# Altium footprint library Connector.PcbLib: 44 footprints (part 2 of 3)
Each footprint in its own frame and in the unit in brackets; x right, y up, seen from the top. Pads: shape width x height; smd on the part's side, far side on the other; paste and mask are expansions set on the pad; w line width, h text height; cw(c..) or ccw(c..) is an arc to the next point about the centre after c.
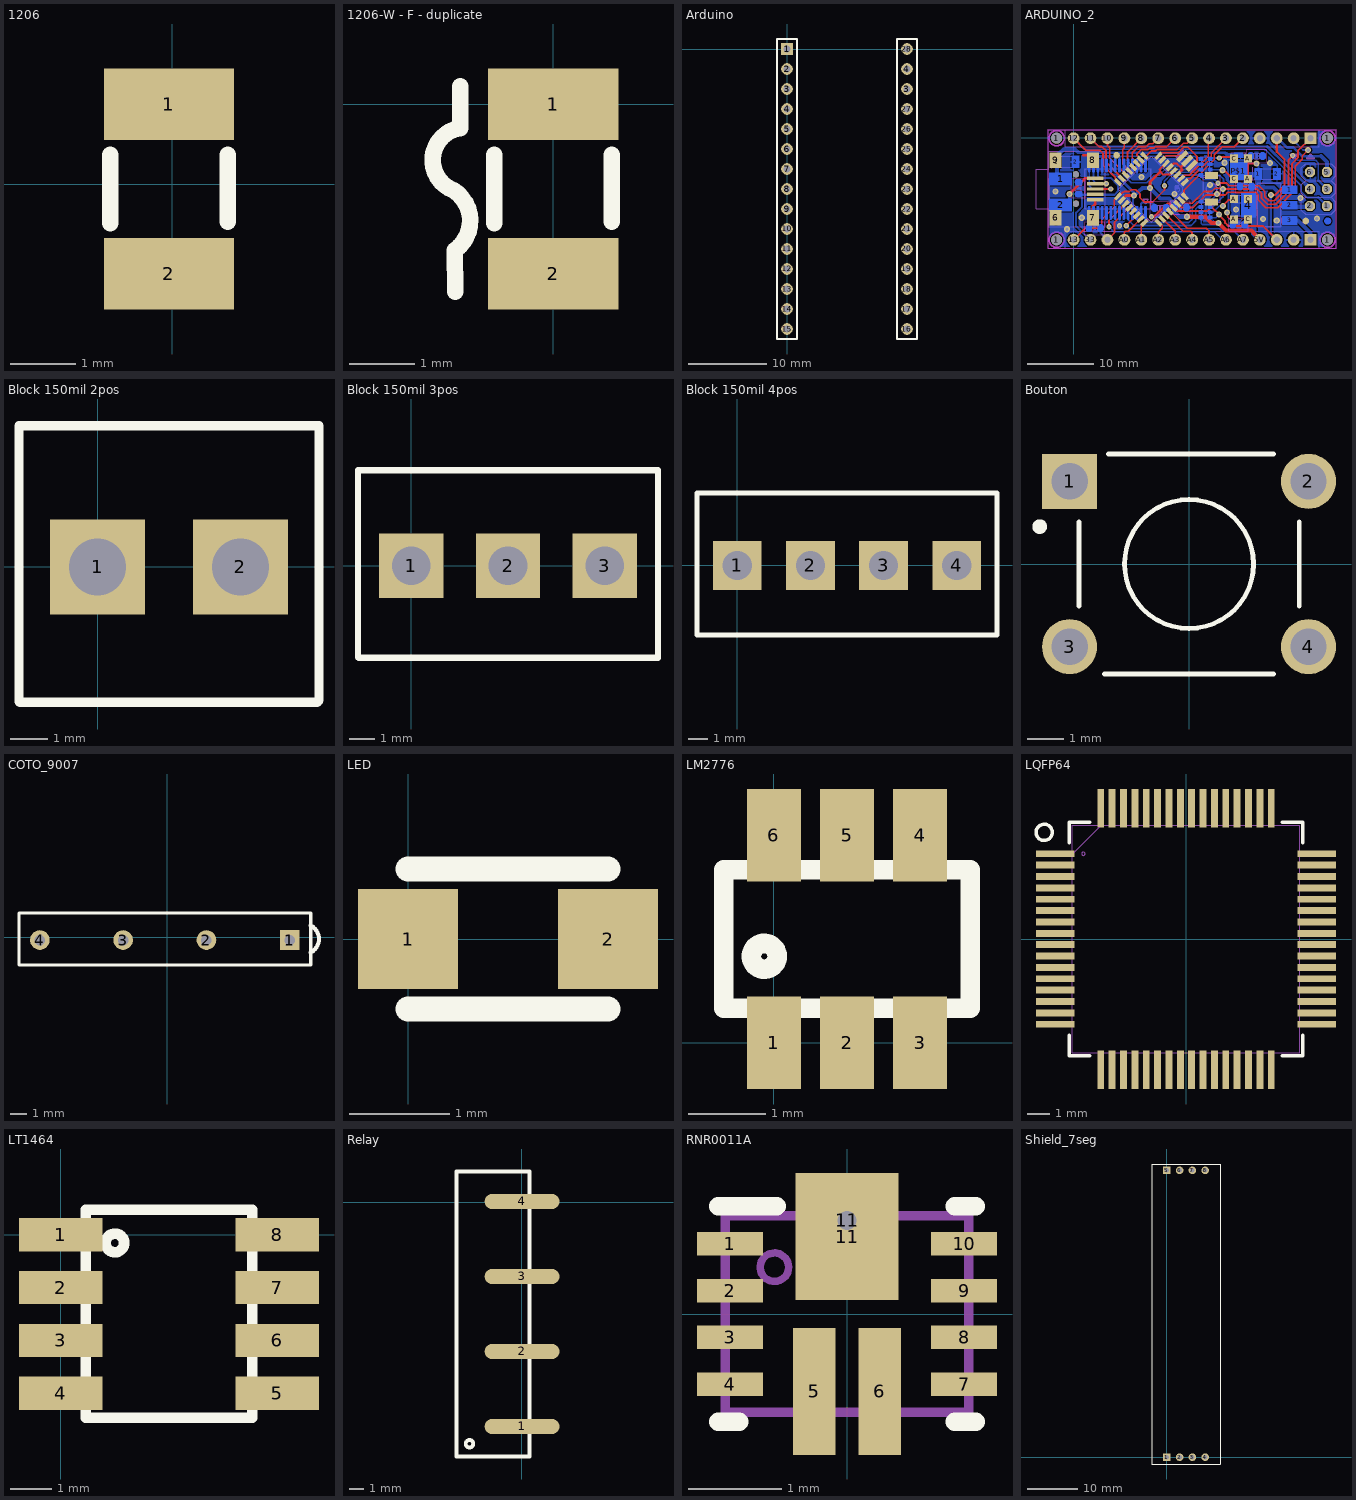
[diagram p1: the footprints below, top view; thin cyan lines are the x and y axes]

## 1206 [mm]
pads (2):
  rect 2x1.1 smd: 1(-0.05,1.225) 2(-0.05,-1.375)
Top Overlay:
  lines w0.254: -0.95,-0.6 -0.95,0.45 ; 0.85,-0.575 0.85,0.45

## 1206-W - F - duplicate [mm] "0603 - 1608"
pads (2):
  rect 2x1.1 smd: 1(0,0) 2(0,-2.6)
Top Overlay:
  lines w0.254: -1.5,-2.875 -1.505,-2.239 ccw(c-1.826,-1.786) -1.525,-1.32 cw(c-1.35,-0.856) -1.423,-0.365 -1.425,0.275 ; -0.9,-1.825 -0.9,-0.775 ; 0.9,-1.8 0.9,-0.775

## Arduino [mm] "SIMPLE"
pads (30):
  rect 1.5x1.5 hole 0.9: 1(0,0)
  round 1.5 hole 0.9: 2(0,-2.54) 3(0,-5.08) 3(15.24,-5.08) 4(0,-7.62) 4(15.24,-2.54) 5(0,-10.16) 6(0,-12.7) 7(0,-15.24) 8(0,-17.78) 9(0,-20.32) 10(0,-22.86) 11(0,-25.4) 12(0,-27.94) 13(0,-30.48) 14(0,-33.02) 15(0,-35.56) 16(15.24,-35.56) 17(15.24,-33.02) 18(15.24,-30.48) 19(15.24,-27.94) 20(15.24,-25.4) 21(15.24,-22.86) 22(15.24,-20.32) 23(15.24,-17.78) 24(15.24,-15.24) 25(15.24,-12.7) 26(15.24,-10.16) 27(15.24,-7.62) 28(15.24,0)
Top Overlay:
  lines w0.2: -1.27,-36.83 1.27,-36.83 1.27,-0.635 1.27,1.27 -1.27,1.27 -1.27,-36.83 ; 13.97,-36.83 13.97,-34.925 13.97,1.27 16.51,1.27 16.51,-36.83 13.97,-36.83

## ARDUINO_2 [mil] "COMPLETE"
pads (170):
  rrect100% 39.37x39.37 smd far side paste-19.68: 1(-104.98,-488.97) 1(1500.02,-490.97)
  round 65 hole 65: 1(-100.98,-601.97) 1(-100.98,-1.97) 1(1499.02,-601.97) 1(1499.02,-1.97)
  rect 44x70 smd far side: 1(-98.98,-141.97) 1(1090.02,-212.97) 2(11.02,-141.97) 2(1200.02,-212.97)
  rect 133.86x74.8 smd far side: 1(-77.98,-242.2) 2(-77.98,-395.74)
  round 37.4 hole 37.4: 1(12.85,-388.59) 1(12.85,-215.36)
  rrect80% 43.31x35.37 smd far side: 1(29.02,-261.97) 2(29.02,-331.97)
  rect 100x20 smd: 1(127.02,-364.97) 2(127.02,-333.47) 3(127.02,-301.98) 4(127.02,-270.48) 5(127.02,-238.99)
  rrect80% 35.37x43.31 smd far side: 1(159.02,-532.97) 1(546.02,-413.97) 1(596.02,-410.97) 1(1009.02,-511.97) 1(1046.02,-106.97) 1(1051.02,-286.97) 2(89.02,-532.97) 2(476.02,-413.97) 2(666.02,-410.97) 2(939.02,-511.97) 2(981.02,-286.97) 2(1116.02,-106.97)
  rrect100% 39.37x39.37 smd paste-19.68: 1(253.02,-102.97) 1(1370.02,-490.97)
  rrect100% 15x80 smd far side: 1(424.02,-442.97) 2(398.42,-442.97) 3(372.84,-442.97) 4(347.25,-442.97) 5(321.65,-442.97) 6(296.07,-442.97) 7(270.49,-442.97) 8(244.89,-442.97) 9(219.3,-442.97) 10(193.7,-442.97) 11(168.1,-442.97) 12(142.52,-442.97) 13(116.94,-442.97) 14(91.34,-442.97) 15(91.34,-162.97) 16(116.94,-162.97) 17(142.52,-162.97) 18(168.1,-162.97) 19(193.7,-162.97) 20(219.3,-162.97) 21(244.89,-162.97) 22(270.49,-162.97) 23(296.07,-162.97) 24(321.65,-162.97) 25(347.25,-162.97) 26(372.84,-162.97) 27(398.44,-162.97) 28(424.02,-162.97)
  rect 78.74x27.56 smd rot 45: 1(642.18,-108.13) 2(670.02,-135.97) 3(697.85,-163.81)
  rect 50x22 smd rot 45: 1(656.47,-262.42) 2(634.19,-240.15) 3(611.92,-217.87) 4(589.65,-195.6) 5(567.38,-173.33) 6(545.11,-151.06) 7(522.84,-128.79) 8(500.57,-106.52) 17(261.56,-345.52) 18(283.84,-367.79) 19(306.11,-390.07) 20(328.38,-412.33) 21(350.65,-434.61) 22(372.92,-456.87) 23(395.19,-479.15) 24(417.47,-501.42)
  rect 25.59x19.69 smd far side: 1(752.45,-219.21) 1(805.59,-376.73) 2(752.45,-187.72) 2(805.59,-408.22) 3(752.45,-156.22) 3(805.59,-439.72) 4(752.45,-124.73) 4(805.59,-471.21) 5(752.45,-471.21) 5(805.59,-124.73) 6(752.45,-439.72) 6(805.59,-156.22) 7(752.45,-408.22) 7(805.59,-187.72) 8(752.45,-376.73) 8(805.59,-219.21)
  rect 78x40 smd: 1(814.02,-221.97) 2(814.02,-379.47)
  rect 88x48 smd far side: 1(1276.02,-305.97) 2(1276.02,-396.97) 3(1276.02,-487.97)
  oct 59.08x59.08 hole 40: 1(1495.02,-401.97) 2(1395.02,-401.97) 3(1495.02,-301.97) 4(1395.02,-301.97) 5(1495.02,-201.97) 6(1395.02,-201.97)
  round 70 hole 36: 2(999.02,-1.97) 3(899.02,-1.97) 4(799.02,-1.97) 5(699.02,-1.97) 5V(1099.02,-601.97) 6(599.02,-1.97) 7(499.02,-1.97) 8(399.02,-1.97) 9(299.02,-1.97) 10(199.02,-1.97) 11(99.02,-1.97) 12(-0.98,-1.97) 13(-0.98,-601.97) 33(99.02,-601.97) A0(299.02,-601.97) A1(399.02,-601.97) A2(499.02,-601.97) A3(599.02,-601.97) A4(699.02,-601.97) A5(799.02,-601.97) A6(899.02,-601.97) A7(999.02,-601.97) GND(1099.02,-1.97) GND(1299.02,-601.97) REF(199.02,-601.97) RST(1199.02,-601.97) RST(1199.02,-1.97) RX0(1299.02,-1.97)
  rect 86.61x141.73 smd far side: 4(1032.01,-396.97)
  rect 70x90 smd: 6(-107.15,-471.96) 7(112.85,-471.96) 8(112.85,-131.96) 9(-107.15,-131.96)
  rect 22x50 smd rot 45: 9(417.47,-106.52) 10(395.19,-128.79) 11(372.92,-151.06) 12(350.65,-173.33) 13(328.38,-195.6) 14(306.11,-217.87) 15(283.84,-240.15) 16(261.56,-262.42) 25(500.57,-501.42) 26(522.84,-479.15) 27(545.11,-456.87) 28(567.38,-434.61) 29(589.65,-412.33) 30(611.92,-390.07) 31(634.19,-367.79) 32(656.47,-345.52)
  rect 47.24x47.24 smd: A(947.68,-481.97) A(947.68,-361.97) A(1030.36,-241.97) A(1030.36,-121.97) C(947.68,-241.97) C(947.68,-121.97) C(1030.36,-481.97) C(1030.36,-361.97)
  rect 100x105 smd far side: P$1(974.02,-194.53)
  rect 50x30 smd far side: P$2(974.02,-102.01)
  rect 70x70 hole 36: TX1(1399.02,-1.97) VIN(1399.02,-601.97)
via 879.02,-190.97 diameter 36 hole 20
via -25.98,-331.97 diameter 36 hole 20
via 859.02,-118.97 diameter 32 hole 16
via 906.02,-441.97 diameter 36 hole 20
via 881.02,-401.97 diameter 36 hole 20
via 193.02,-269.97 diameter 32 hole 16
via 218.02,-301.97 diameter 32 hole 16
via 1384.02,-71.97 diameter 36 hole 20
via 846.02,-331.97 diameter 36 hole 20
via 854.02,-501.97 diameter 36 hole 20
via 1079.02,-151.97 diameter 36 hole 20
via 450.02,-295.97 diameter 36 hole 20
via 668.02,-465.97 diameter 36 hole 20
via 356.02,-340.97 diameter 36 hole 20
via -39.98,-539.97 diameter 36 hole 20
via 805.02,-277.97 diameter 36 hole 20
via 1339.02,-355.97 diameter 36 hole 20
via 1199.02,-488.97 diameter 36 hole 20
via 1119.02,-478.97 diameter 36 hole 20
via 959.02,-423.97 diameter 36 hole 20
via 891.02,-146.97 diameter 36 hole 20
via 1159.02,-148.97 diameter 36 hole 20
via 400.02,-231.97 diameter 36 hole 20
via 595.02,-330.97 diameter 36 hole 20
via 270.02,-519.97 diameter 32 hole 16
via 47.02,-471.97 diameter 36 hole 20
via -108.98,-315.97 diameter 36 hole 20
via 1436.02,-476.97 diameter 36 hole 20
via 852.02,-266.97 diameter 32 hole 16
via 1294.02,-103.97 diameter 32 hole 16
via 536.02,-281.97 diameter 32 hole 16
via 310.02,-517.97 diameter 32 hole 16
via 208.02,-524.97 diameter 32 hole 16
via 881.02,-301.97 diameter 36 hole 20
via 459.02,-466.97 diameter 32 hole 16
via 859.02,-451.97 diameter 36 hole 20
via 1164.02,-336.97 diameter 36 hole 20
Top Layer:
  lines w10: -0.98,-601.97 67.02,-533.97 153.02,-533.97 165.02,-521.97 165.02,-481.97 239.02,-407.97 239.02,-366.97 260.47,-345.52 261.57,-345.52 265.47,-345.52 289.02,-321.97 294.02,-321.97 299.02,-316.97 329.02,-316.97 339.02,-306.97 367.02,-306.97 391.02,-330.97 391.02,-352.97 417.02,-378.97 465.02,-378.97 536.02,-307.97 536.02,-281.97 ; -0.98,-1.97 70.02,-72.97 154.02,-72.97 173.02,-91.97 173.02,-160.97 244.89,-232.84 244.89,-243.74 261.57,-262.42 ; 99.02,-1.97 148.02,-50.97 165.02,-50.97 191.02,-76.97 191.02,-142.97 283.84,-235.79 ; 127.02,-301.98 221.01,-301.98 218.02,-301.97 ; 127.02,-270.48 195.01,-270.48 193.02,-269.97 ; 199.02,-601.97 241.02,-559.97 241.02,-497.97 328.38,-410.61 ; 199.02,-1.97 199.02,-45.97 212.02,-58.97 212.02,-119.97 306.11,-214.06 ; 208.02,-524.97 208.02,-485.97 298.02,-395.97 ; 283.84,-240.15 283.84,-235.79 ; 293.02,-244.97 283.84,-235.79 ; 299.02,-601.97 299.02,-557.97 305.02,-551.97 321.02,-551.97 400.02,-472.97 ; 299.02,-1.97 299.02,-58.97 289.02,-68.97 289.02,-152.97 328.38,-192.33 ; 306.11,-390.06 298.21,-395.97 298.02,-395.97 ; 306.11,-217.88 306.11,-214.06 ; 310.02,-517.97 311.02,-517.97 372.93,-456.06 ; 315.02,-222.97 306.11,-214.06 ; 315.09,-380.9 313.09,-380.9 298.02,-395.97 ; 328.38,-412.34 328.38,-410.61 ; 328.38,-195.6 328.38,-192.33 ; 337.02,-200.97 328.38,-192.33 ; 337.35,-401.64 328.38,-410.61 ; 350.65,-173.33 350.65,-170.6 ; 359.02,-178.97 350.65,-170.6 ; 372.93,-456.88 372.93,-456.06 ; 372.93,-151.06 372.93,-148.06 373.02,-147.97 ; 381.3,-156.25 373.02,-147.97 ; 381.87,-447.12 372.93,-456.06 ; 395.2,-479.15 399.38,-472.97 400.02,-472.97 ; 395.2,-128.79 395.2,-125.15 ; 399.02,-601.97 399.02,-517.97 417.47,-499.52 417.47,-501.42 ; 399.02,-1.97 317.02,-83.97 317.02,-136.97 350.65,-170.6 ; 403.65,-133.6 395.2,-125.15 ; 404.16,-468.83 400.02,-472.97 ; 417.47,-106.52 421.09,-104.52 426.28,-109.71 458.02,-77.97 484.02,-77.97 493.02,-68.97 610.02,-68.97 648.02,-30.97 670.02,-30.97 699.02,-1.97 ; 445.02,-298.97 450.02,-295.97 ; 493.85,-112.14 493.85,-111.14 500.47,-104.52 ; 499.02,-601.97 499.02,-557.97 523.02,-533.97 523.02,-520.97 501.47,-499.42 500.57,-501.42 ; 499.02,-1.97 467.02,-33.97 445.02,-33.97 428.02,-50.97 382.02,-50.97 346.02,-86.97 346.02,-120.97 373.02,-147.97 ; 500.57,-106.52 500.47,-104.52 ; 508.02,-185.97 537.34,-156.65 ; 515.59,-134.4 523.2,-126.79 ; 522.84,-479.15 515.37,-469.68 515.37,-468.32 599.02,-551.97 599.02,-601.97 ; 522.84,-128.79 523.2,-126.79 ; 545.11,-456.88 538.5,-448.26 538.5,-445.45 645.02,-551.97 691.02,-551.97 699.02,-559.97 699.02,-601.97 ; 559.92,-423.87 571.02,-434.97 ; 567.39,-434.61 569.75,-434.97 571.02,-434.97 ; 589.66,-412.34 589.79,-410.47 590.52,-410.47 ; 599.02,-1.97 550.02,-50.97 485.02,-50.97 476.02,-59.97 448.02,-59.97 439.02,-68.97 398.02,-68.97 374.02,-92.97 374.02,-103.97 395.2,-125.15 ; 626.39,-357.34 640.02,-370.97 656.02,-386.97 699.02,-386.97 769.02,-316.97 814.02,-316.97 834.02,-296.97 876.02,-296.97 881.02,-301.97 ; 634.2,-240.15 628.64,-245.71 627.28,-245.71 652.02,-220.97 683.02,-220.97 794.02,-109.97 794.02,-16.97 799.02,-11.97 799.02,-1.97 ; 642.18,-108.13 632.02,-104.97 545.02,-104.97 523.2,-126.79 ; 650.56,-334.43 651.02,-333.97 651.02,-308.97 693.02,-266.97 830.02,-127.97 830.02,-99.97 878.02,-51.97 949.02,-51.97 999.02,-1.97 ; 656.57,-260.42 675.02,-241.97 689.02,-241.97 812.02,-118.97 812.02,-88.97 899.02,-1.97 ; 697.86,-163.81 697.02,-169.97 728.02,-138.97 728.02,-108.97 675.02,-55.97 650.02,-55.97 619.02,-86.97 518.02,-86.97 500.47,-104.52 ; 704.02,-411.97 779.02,-336.97 836.02,-336.97 846.02,-331.97 ; 799.02,-601.97 799.02,-549.97 783.02,-533.97 670.02,-533.97 571.02,-434.97 ; 849.02,-331.97 846.02,-331.97 ; 852.02,-266.97 904.02,-266.97 919.02,-281.97 1094.02,-281.97 1129.02,-316.97 1129.02,-346.97 1154.02,-371.97 1184.02,-371.97 1269.02,-286.97 1269.02,-128.97 1294.02,-103.97 ; 874.02,-296.97 881.02,-301.97 ; 906.02,-441.97 910.02,-451.97 909.02,-466.97 924.02,-481.97 948.36,-481.97 ; 1384.02,-71.97 1349.02,-106.97 1349.02,-126.97 1309.02,-166.97 1309.02,-306.97 1204.02,-411.97 1134.02,-411.97 1089.02,-366.97 1089.02,-336.97 1074.02,-321.97 909.02,-321.97 894.02,-336.97 851.02,-336.97 846.02,-331.97 ; 1399.02,-1.97 1324.02,-76.97 1324.02,-116.97 1289.02,-151.97 1289.02,-296.97 1194.02,-391.97 1144.02,-391.97 1109.02,-356.97 1109.02,-326.97 1084.02,-301.97 881.02,-301.97
  lines w12: 459.02,-466.97 474.02,-466.97 554.02,-386.97 564.29,-386.97 589.66,-412.34 ; 508.02,-185.97 509.02,-186.97 509.02,-201.97 514.02,-201.97 529.02,-216.97 566.02,-216.97 582.02,-200.97 582.29,-200.97 589.66,-195.6 ; 537.34,-156.65 537.52,-156.65 545.11,-151.06 ; 567.39,-173.33 569.66,-171.33 589.02,-151.97 609.02,-151.97 635.43,-177.38 632.43,-195.38 ; 590.52,-410.47 612.02,-431.97 789.02,-431.97 809.02,-411.97 819.02,-411.97 ; 605.04,-378.99 605.04,-381.17 611.93,-390.06 615.11,-388.06 639.02,-411.97 704.02,-411.97 ; 634.2,-367.79 639.38,-370.97 640.02,-370.97 ; 651.02,-333.97 651.02,-338.07 656.47,-345.52 ; 656.47,-262.42 656.57,-260.42 ; 824.02,-389.47 814.02,-379.47 ; 844.02,-376.97 841.52,-379.47 814.02,-379.47 ; 859.02,-118.97 864.02,-116.97 868.02,-112.97 946.68,-112.97 947.68,-121.97 ; 879.02,-190.97 889.02,-191.97 924.02,-226.97 939.22,-226.97 947.68,-241.97 ; 881.02,-401.97 879.02,-403.97 874.02,-406.97 915.36,-365.63 937.68,-365.63 947.68,-361.97 ; 947.68,-481.97 953.02,-486.63 948.36,-481.97 ; 1030.36,-241.97 1030.36,-151.97 ; 1030.36,-121.97 1030.36,-151.97 ; 1079.02,-151.97 1030.36,-151.97 ; 1164.02,-336.97 1189.02,-336.97 1244.02,-281.97 1244.02,-126.97 1199.02,-81.97 1199.02,-1.97 ; 1199.02,-601.97 1119.02,-520.97 914.02,-520.97 894.02,-501.97 894.02,-491.97 859.02,-456.97 859.02,-451.97 819.02,-411.97 ; 814.02,-379.47 814.02,-406.97 819.02,-411.97
  lines w16: -25.98,-331.97 67,-238.99 127.02,-238.99 ; 58.02,-101.97 112.85,-101.97 112.85,-131.96 ; 112.85,-471.96 113.01,-471.96 ; 127.02,-364.97 127.02,-390.97 113.02,-404.97 113.02,-471.97 ; 283.84,-367.79 308.66,-340.97 356.02,-340.97 ; 450.02,-295.97 450.02,-260.97 509.02,-201.97 ; 611.93,-217.88 632.43,-195.38 639.02,-188.78 634.02,-171.97 670.02,-135.97 ; 113.01,-471.96 113.02,-471.97
  lines w24: 668.02,-465.97 777.02,-465.97 813.02,-501.97 854.02,-501.97 899.02,-546.97 1049.02,-546.97 1099.02,-601.97
Bottom Layer:
  drawing of 242 lines, arcs and shapes, not listed
Top Solder:
  circle w50: c-104.98,-488.97 r14.19
  circle w50: c1500.02,-490.97 r14.19
  circle w50: c253.02,-102.97 r14.19
  circle w50: c1370.02,-490.97 r14.19
Keep-Out Layer:
  lines w0: -150.98,-651.97 1549.02,-651.97 1549.02,48.03 -150.98,48.03 -150.98,-651.97
  lines w2: -9.68,-354.96 -9.68,-238.98 67.72,-238.98 67.72,-354.96 -9.68,-354.96 ; 66.03,-571.67 66.03,-494.27 182.01,-494.27 182.01,-571.67 66.03,-571.67 ; 453.03,-452.67 453.03,-375.27 569.01,-375.27 569.01,-452.67 453.03,-452.67 ; 573.03,-449.67 689.01,-449.67 689.01,-372.27 573.03,-372.27 573.03,-449.67 ; 916.03,-550.67 916.03,-473.27 1032.01,-473.27 1032.01,-550.67 916.03,-550.67 ; 958.03,-325.67 958.03,-248.27 1074.01,-248.27 1074.01,-325.67 958.03,-325.67 ; 1023.03,-145.67 1139.01,-145.67 1139.01,-68.27 1023.03,-68.27 1023.03,-145.67
Mechanical 1:
  lines w0: -150.98,-651.97 1549.02,-651.97 1549.02,48.03 -150.98,48.03 -150.98,-651.97
Mechanical 2:
  circle w6: c611.75,-303.97 r14.14
  circle w8: c814.02,-301.97 r32.01
  region: 989.02,-478.03 989.02,-485.91 996.89,-485.91 996.89,-478.03
  region: 989.02,-358.03 989.02,-365.91 996.89,-365.91 996.89,-358.03
  region: 989.02,-125.91 989.02,-118.03 981.15,-118.03 981.15,-125.91
  region: 989.02,-245.91 989.02,-238.03 981.15,-238.03 981.15,-245.91
  lines w5: -147.98,-364.97 -147.98,-239.97
  lines w6: 1370.02,-351.97 1345.02,-376.97 1345.02,-426.97 1370.02,-451.97 1520.02,-451.97 1545.02,-426.97 1545.02,-376.97 1520.02,-351.97 ; 1370.02,-351.97 1345.02,-326.97 1345.02,-276.97 1370.02,-251.97 ; 1370.02,-351.97 1520.02,-351.97 ; 1370.02,-251.97 1520.02,-251.97 ; 1370.02,-251.97 1345.02,-226.97 1345.02,-176.97 1370.02,-151.97 1520.02,-151.97 1545.02,-176.97 1545.02,-226.97 1520.02,-251.97 ; 1520.02,-351.97 1545.02,-326.97 1545.02,-276.97 1520.02,-251.97 ; 263.87,-303.97 459.02,-499.12 644.28,-313.85 644.28,-294.09 459.02,-108.82 263.87,-303.97
  lines w8: 764.02,-341.97 764.02,-261.97 ; 864.02,-341.97 864.02,-261.97
  lines w8.66: 603.2,-113.7 647.75,-69.15 ; 692.28,-202.78 736.83,-158.24
  lines w16: 1289.02,-106.97 1306.02,-106.97 ; 1390.02,-111.97 1404.02,-111.97 ; 1281.02,-98.97 1299.02,-120.97 1317.02,-98.97 1281.02,-98.97 ; 1380.02,-120.97 1416.02,-120.97 1398.02,-98.97 1380.02,-120.97
  text "*" at 862.02,-49.97 h31
  text "*" at 663.02,-49.97 h31
  text "*" at 562.02,-49.97 h31
  text "*" at 62.02,-49.97 h31
  text "*" at 161.02,-49.97 h31
  text "*" at 262.02,-49.97 h31
  text "NANO" at 1241.74,-374.57 h62
  text "ARDUINO" at 1305.74,-422.45 h62
  text "ARDUINO.CC" at 567.02,-500.97 h49.6
  text "L" at 1105.78,-481.84 h49.6
  text "RST" at 904.78,-365.33 h49.6
  text "PWR" at 1115.78,-415.43 h49.6
  text "RX" at 1115.78,-266.8 h49.6
  text "TX" at 1110.78,-154.32 h49.6
  text "ICSP" at 1442.02,-141.97 h49.6
  text "1" at 1526.85,-484.09 h85.25
  text "VIN" at 1373.02,-555.97 h49.6
  text "GND" at 1274.02,-555.97 h49.6
  text "RST" at 1171.02,-555.97 h49.6
  text "5V" at 1071.02,-555.97 h49.6
  text "A7" at 971.02,-555.97 h49.6
  text "A6" at 872.02,-555.97 h49.6
  text "A5" at 772.02,-555.97 h49.6
  text "A4" at 671.02,-555.97 h49.6
  text "A3" at 572.02,-555.97 h49.6
  text "A2" at 472.02,-555.97 h49.6
  text "A1" at 373.02,-555.97 h49.6
  text "A0" at 272.02,-555.97 h49.6
  text "REF" at 158.02,-555.97 h49.6
  text "3V3" at 59.02,-555.97 h49.6
  text "D13" at -41.98,-555.97 h49.6
  text "D12" at -41.98,-79.97 h49.6
  text "D11" at 58.02,-79.97 h49.6
  text "D10" at 157.02,-79.97 h49.6
  text "D9" at 273.02,-79.97 h49.6
  text "D8" at 374.02,-79.97 h49.6
  text "D7" at 472.02,-79.97 h49.6
  text "D6" at 573.02,-79.97 h49.6
  text "D5" at 675.02,-79.97 h49.6
  text "D4" at 773.02,-79.97 h49.6
  text "D3" at 874.02,-79.97 h49.6
  text "D2" at 972.02,-79.97 h49.6
  text "GND" at 1060.02,-79.97 h49.6
  text "RST" at 1160.02,-79.97 h49.6
  text "RX0" at 1259.02,-79.97 h49.6
  text "TX1" at 1359.02,-79.97 h49.6
  text "3" at 1324.02,-437.16 h49.6
  text "4" at 1054.02,-471.97 h49.6
  text "1" at 1324.02,-261.04 h49.6
  text "2" at 1324.39,-346.16 h49.6
Mechanical 3:
  circle w16: c609.02,-290.97 r5.65
  lines w5: -130.98,-179.97 -130.98,-103.97 ; -64.98,-173.97 -22.98,-173.97 ; -64.98,-109.97 -22.98,-109.97 ; 1058.02,-250.97 1058.02,-174.97 ; 1124.02,-244.97 1166.02,-244.97 ; 1124.02,-180.97 1166.02,-180.97 ; 930.71,-245.71 930.71,-88.23 1017.33,-88.23 1017.33,-245.71 930.71,-245.71
  lines w8: 64.02,-417.97 64.02,-182.97 ; 454.02,-417.97 454.02,-182.97 ; 409.02,-362.97 439.02,-362.97 424.02,-387.97 409.02,-362.97 ; 1084.02,-525.97 1224.02,-525.97 1224.02,-267.97 1084.02,-267.97 1084.02,-525.97
  lines w16: 934.65,-206.34 1013.39,-206.34
Mechanical 9:
  region: 981.89,-500.16 966.15,-500.16 966.15,-523.78 981.89,-523.78
  region: 1023.89,-275.16 1008.15,-275.16 1008.15,-298.78 1023.89,-298.78
  region: 17.21,-289.1 17.21,-304.84 40.83,-304.84 40.83,-289.1
  rectangle: 1073.15,-118.78 1088.89,-95.16
  region: 518.89,-402.16 503.15,-402.16 503.15,-425.78 518.89,-425.78
  rectangle: 623.15,-422.78 638.89,-399.16
  region: 131.89,-521.16 116.15,-521.16 116.15,-544.78 131.89,-544.78
Mechanical 10 keep-out:
  circle w10: c1499.02,-1.97 r45
  circle w10: c-100.98,-601.97 r45
  circle w10: c1499.02,-601.97 r45
  circle w10: c-100.98,-1.97 r45
Mechanical 11 keep-out:
  circle w10: c1499.02,-601.97 r45
  circle w10: c1499.02,-1.97 r45
  circle w10: c-100.98,-1.97 r45
  circle w10: c-100.98,-601.97 r45
Mechanical 18:
  circle w4: c1022.48,-464.25 r4.06
  circle w4: c1022.48,-344.25 r4.06
  circle w4: c955.56,-139.69 r4.06
  circle w4: c955.56,-259.69 r4.06
  circle w5: c814.02,-301.97 r32.01
  region: 657.18,-248.98 629.6,-276.56 642.33,-289.29 669.9,-261.71
  region: 634.9,-226.71 607.32,-254.29 620.05,-267.01 647.63,-239.44
  region: 612.63,-204.44 585.05,-232.01 597.78,-244.74 625.36,-217.16
  region: 590.36,-182.17 562.78,-209.75 575.51,-222.47 603.09,-194.9
  region: 568.09,-159.9 540.51,-187.47 553.24,-200.2 580.81,-172.62
  region: 545.82,-137.63 518.24,-165.21 530.97,-177.93 558.55,-150.36
  region: 523.55,-115.35 495.97,-142.93 508.7,-155.66 536.27,-128.08
  region: 501.27,-93.08 473.7,-120.66 486.42,-133.39 514,-105.81
  region: 416.76,-93.08 404.03,-105.81 431.61,-133.39 444.34,-120.66
  region: 394.48,-115.35 381.76,-128.08 409.33,-155.66 422.06,-142.93
  region: 372.21,-137.63 359.48,-150.36 387.06,-177.93 399.79,-165.21
  region: 349.94,-159.9 337.22,-172.62 364.79,-200.2 377.52,-187.47
  region: 327.67,-182.17 314.94,-194.9 342.52,-222.47 355.25,-209.75
  region: 305.4,-204.44 292.68,-217.16 320.25,-244.74 332.98,-232.01
  region: 283.13,-226.71 270.4,-239.44 297.98,-267.02 310.71,-254.29
  region: 260.86,-248.98 248.13,-261.71 275.71,-289.29 288.43,-276.56
  region: 275.71,-318.65 248.13,-346.23 260.86,-358.95 288.43,-331.38
  region: 297.98,-340.92 270.4,-368.5 283.13,-381.23 310.71,-353.65
  region: 320.25,-363.2 292.68,-390.77 305.4,-403.5 332.98,-375.92
  region: 342.52,-385.46 314.94,-413.04 327.67,-425.77 355.25,-398.19
  region: 364.79,-407.74 337.22,-435.31 349.94,-448.04 377.52,-420.46
  region: 387.06,-430 359.48,-457.58 372.21,-470.31 399.79,-442.73
  region: 409.33,-452.28 381.76,-479.85 394.48,-492.58 422.06,-465
  region: 431.61,-474.55 404.03,-502.13 416.76,-514.86 444.34,-487.28
  region: 486.42,-474.55 473.69,-487.28 501.27,-514.86 514,-502.13
  region: 508.7,-452.28 495.97,-465.01 523.55,-492.58 536.27,-479.85
  region: 530.97,-430 518.24,-442.73 545.82,-470.31 558.55,-457.58
  region: 553.24,-407.74 540.51,-420.46 568.09,-448.04 580.81,-435.31
  region: 575.51,-385.46 562.78,-398.19 590.36,-425.77 603.09,-413.04
  region: 597.78,-363.2 585.05,-375.92 612.63,-403.5 625.36,-390.77
  region: 620.05,-340.92 607.32,-353.65 634.9,-381.23 647.63,-368.5
  region: 642.33,-318.65 629.6,-331.38 657.18,-358.95 669.9,-346.23
  region: 1008.71,-493.78 1008.71,-506.58 1028.39,-506.58 1028.39,-493.78
  region: 1008.71,-469.17 1008.71,-475.08 1018.55,-475.08 1018.55,-469.17
  region: 1008.71,-488.86 1008.71,-494.77 1018.55,-494.77 1018.55,-488.86
  region: 1008.71,-474.1 1008.71,-489.84 1015.59,-489.84 1015.59,-474.1
  region: 949.65,-493.78 949.65,-506.58 969.33,-506.58 969.33,-493.78
  region: 949.65,-457.36 949.65,-470.16 969.33,-470.16 969.33,-457.36
  region: 959.49,-488.86 959.49,-494.77 969.33,-494.77 969.33,-488.86
  region: 959.49,-469.17 959.49,-475.08 969.33,-475.08 969.33,-469.17
  region: 962.45,-474.1 962.45,-489.84 969.33,-489.84 969.33,-474.1
  region: 1008.71,-458.35 1008.71,-470.16 1020.52,-470.16 1020.52,-458.35
  region: 1025.44,-457.36 1025.44,-470.16 1028.39,-470.16 1028.39,-457.36
  region: 1008.71,-373.78 1008.71,-386.58 1028.39,-386.58 1028.39,-373.78
  region: 1008.71,-349.17 1008.71,-355.08 1018.55,-355.08 1018.55,-349.17
  region: 1008.71,-368.86 1008.71,-374.77 1018.55,-374.77 1018.55,-368.86
  region: 1008.71,-354.1 1008.71,-369.84 1015.59,-369.84 1015.59,-354.1
  region: 949.65,-373.78 949.65,-386.58 969.33,-386.58 969.33,-373.78
  region: 949.65,-337.36 949.65,-350.16 969.33,-350.16 969.33,-337.36
  region: 959.49,-368.86 959.49,-374.77 969.33,-374.77 969.33,-368.86
  region: 959.49,-349.17 959.49,-355.08 969.33,-355.08 969.33,-349.17
  region: 962.45,-354.1 962.45,-369.84 969.33,-369.84 969.33,-354.1
  region: 1008.71,-338.35 1008.71,-350.16 1020.52,-350.16 1020.52,-338.35
  region: 1025.44,-337.36 1025.44,-350.16 1028.39,-350.16 1028.39,-337.36
  region: 969.33,-110.16 969.33,-97.36 949.65,-97.36 949.65,-110.16
  region: 969.33,-134.77 969.33,-128.86 959.49,-128.86 959.49,-134.77
  region: 969.33,-115.08 969.33,-109.17 959.49,-109.17 959.49,-115.08
  region: 969.33,-129.84 969.33,-114.1 962.45,-114.1 962.45,-129.84
  region: 1028.39,-110.16 1028.39,-97.36 1008.71,-97.36 1008.71,-110.16
  region: 1028.39,-146.58 1028.39,-133.78 1008.71,-133.78 1008.71,-146.58
  region: 1018.55,-115.08 1018.55,-109.17 1008.71,-109.17 1008.71,-115.08
  region: 1018.55,-134.77 1018.55,-128.86 1008.71,-128.86 1008.71,-134.77
  region: 1015.59,-129.84 1015.59,-114.1 1008.71,-114.1 1008.71,-129.84
  region: 969.33,-145.59 969.33,-133.78 957.52,-133.78 957.52,-145.59
  region: 952.6,-146.58 952.6,-133.78 949.65,-133.78 949.65,-146.58
  region: 969.33,-230.16 969.33,-217.36 949.65,-217.36 949.65,-230.16
  region: 969.33,-254.77 969.33,-248.86 959.49,-248.86 959.49,-254.77
  region: 969.33,-235.08 969.33,-229.17 959.49,-229.17 959.49,-235.08
  region: 969.33,-249.84 969.33,-234.1 962.45,-234.1 962.45,-249.84
  region: 1028.39,-230.16 1028.39,-217.36 1008.71,-217.36 1008.71,-230.16
  region: 1028.39,-266.58 1028.39,-253.78 1008.71,-253.78 1008.71,-266.58
  region: 1018.55,-235.08 1018.55,-229.17 1008.71,-229.17 1008.71,-235.08
  region: 1018.55,-254.77 1018.55,-248.86 1008.71,-248.86 1008.71,-254.77
  region: 1015.59,-249.84 1015.59,-234.1 1008.71,-234.1 1008.71,-249.84
  region: 969.33,-265.59 969.33,-253.78 957.52,-253.78 957.52,-265.59
  region: 952.6,-266.58 952.6,-253.78 949.65,-253.78 949.65,-266.58
  region: 1505.02,-411.97 1505.02,-391.97 1485.02,-391.97 1485.02,-411.97
  region: 1405.02,-411.97 1405.02,-391.97 1385.02,-391.97 1385.02,-411.97
  region: 1405.02,-311.97 1405.02,-291.97 1385.02,-291.97 1385.02,-311.97
  region: 1505.02,-311.97 1505.02,-291.97 1485.02,-291.97 1485.02,-311.97
  region: 1405.02,-211.97 1405.02,-191.97 1385.02,-191.97 1385.02,-211.97
  region: 1505.02,-211.97 1505.02,-191.97 1485.02,-191.97 1485.02,-211.97
  lines w4: 952.6,-495.75 ccw(c950.46,-481.97) 952.6,-468.19 ; 952.6,-375.75 ccw(c950.46,-361.97) 952.6,-348.19 ; 952.6,-264.61 1008.71,-264.61 ; 952.6,-255.75 ccw(c950.46,-241.97) 952.6,-228.19 ; 952.6,-144.61 1008.71,-144.61 ; 952.6,-135.75 ccw(c950.46,-121.97) 952.6,-108.19 ; 968.35,-504.61 1009.69,-504.61 ; 968.35,-384.61 1009.69,-384.61 ; 968.35,-219.33 1009.69,-219.33 ; 968.35,-99.33 1009.69,-99.33 ; 969.33,-459.33 1025.44,-459.33 ; 969.33,-339.33 1025.44,-339.33 ; 1025.44,-495.75 cw(c1027.57,-481.97) 1025.44,-468.19 ; 1025.44,-375.75 cw(c1027.57,-361.97) 1025.44,-348.19 ; 1025.44,-255.75 cw(c1027.57,-241.97) 1025.44,-228.19 ; 1025.44,-135.75 cw(c1027.57,-121.97) 1025.44,-108.19
  lines w5: -147.98,-364.97 -147.98,-239.97 ; -222.98,-419.97 -147.98,-419.97 -147.98,-524.97 187.02,-524.97 187.02,-79.97 -147.98,-79.97 -147.98,-184.97 -222.98,-184.97 -222.98,-419.97 ; -50.98,-651.97 1449.02,-651.97 1449.02,-551.97 -50.98,-551.97 -50.98,-651.97 ; -50.98,-51.97 1449.02,-51.97 1449.02,48.03 -50.98,48.03 -50.98,-51.97 ; 608.77,-119.27 686.72,-197.22 731.27,-152.67 653.31,-74.72 608.77,-119.27 ; 764.02,-378.97 864.02,-378.97 864.02,-221.97 764.02,-221.97 764.02,-378.97
Mechanical 19:
  region: 1007.02,-493.07 987.33,-493.07 987.33,-530.47 1007.02,-530.47
  region: 961.02,-493.07 941.33,-493.07 941.33,-530.47 961.02,-530.47
  region: 1049.02,-268.07 1029.33,-268.07 1029.33,-305.47 1049.02,-305.47
  region: 1003.02,-268.07 983.33,-268.07 983.33,-305.47 1003.02,-305.47
  region: 10.12,-263.97 10.12,-283.66 47.52,-283.66 47.52,-263.97
  region: 10.12,-309.97 10.12,-329.66 47.52,-329.66 47.52,-309.97
  region: 1010.02,-333.97 1010.02,-459.97 1083.02,-459.97 1083.02,-333.97
  region: 1225.02,-379.97 1225.02,-413.97 1298.02,-413.97 1298.02,-379.97
  region: 1225.02,-288.97 1225.02,-322.97 1298.02,-322.97 1298.02,-288.97
  region: 1225.02,-470.97 1225.02,-504.97 1298.02,-504.97 1298.02,-470.97
  region: 1010.02,-333.97 1010.02,-459.97 1083.02,-459.97 1083.02,-333.97
  region: 1225.02,-379.97 1225.02,-413.97 1298.02,-413.97 1298.02,-379.97
  region: 1225.02,-288.97 1225.02,-322.97 1298.02,-322.97 1298.02,-288.97
  region: 1225.02,-470.97 1225.02,-504.97 1298.02,-504.97 1298.02,-470.97
  region: -142.9,-224.97 -142.9,-262.37 -12.98,-262.37 -12.98,-224.97
  region: -142.9,-375.97 -142.9,-413.37 -12.98,-413.37 -12.98,-375.97
  rectangle: 1048.02,-125.87 1067.71,-88.47
  rectangle: 1094.02,-125.87 1113.71,-88.47
  region: 544.02,-395.07 524.33,-395.07 524.33,-432.47 544.02,-432.47
  region: 498.02,-395.07 478.33,-395.07 478.33,-432.47 498.02,-432.47
  rectangle: 598.02,-429.87 617.71,-392.47
  rectangle: 644.02,-429.87 663.71,-392.47
  region: 157.02,-514.07 137.33,-514.07 137.33,-551.47 157.02,-551.47
  region: 111.02,-514.07 91.33,-514.07 91.33,-551.47 111.02,-551.47
  lines w4: -140.98,-376.97 -140.98,-260.97 ; -14.98,-376.97 -14.98,-261.97 ; 12.01,-310.99 12.01,-282.95 ; 45.52,-310.99 45.52,-282.95 ; 110,-549.47 138.04,-549.47 ; 110,-515.96 138.04,-515.96 ; 497,-430.47 525.04,-430.47 ; 497,-396.96 525.04,-396.96 ; 617,-427.98 645.04,-427.98 ; 617,-394.47 645.04,-394.47 ; 960,-528.47 988.04,-528.47 ; 960,-494.96 988.04,-494.96 ; 1002,-303.47 1030.04,-303.47 ; 1002,-269.96 1030.04,-269.96 ; 1067,-123.98 1095.04,-123.98 ; 1067,-90.47 1095.04,-90.47 ; 749.49,-484.99 749.49,-463.34 ccw(c749.49,-455.46) 749.49,-447.59 749.49,-431.84 ccw(c749.49,-423.97) 749.49,-416.1 749.49,-400.35 ccw(c749.49,-392.47) 749.49,-384.6 749.49,-362.95 808.55,-362.95 808.55,-384.6 ccw(c808.55,-392.47) 808.55,-400.35 808.55,-416.1 ccw(c808.55,-423.97) 808.55,-431.84 808.55,-447.59 ccw(c808.55,-455.46) 808.55,-463.34 808.55,-484.99 749.49,-484.99 ; 749.49,-232.99 808.55,-232.99 808.55,-211.34 cw(c808.55,-203.46) 808.55,-195.59 808.55,-179.84 cw(c808.55,-171.97) 808.55,-164.1 808.55,-148.35 cw(c808.55,-140.47) 808.55,-132.6 808.55,-110.95 749.49,-110.95 749.49,-132.6 cw(c749.49,-140.47) 749.49,-148.35 749.49,-164.1 cw(c749.49,-171.97) 749.49,-179.84 749.49,-195.59 cw(c749.49,-203.46) 749.49,-211.34 749.49,-232.99
  lines w5: -115.98,-173.97 -115.98,-109.97 28.02,-109.97 28.02,-173.97 -115.98,-173.97 ; 64.02,-417.97 64.02,-182.97 454.02,-182.97 454.02,-417.97 64.02,-417.97 ; 1073.02,-244.97 1073.02,-180.97 1217.02,-180.97 1217.02,-244.97 1073.02,-244.97

## Block 150mil 2pos [mil]
pads (2):
  rect 100x100 hole 60: 1(0,0) 2(150.59,0)
Top Overlay:
  lines w10: -82.68,0 -82.68,78.74 ; -81.94,-142.47 -81.69,-142.72 171.26,-142.72 231.3,-142.72 233.27,-140.75 233.27,-113.19 233.27,0 233.27,83.66 233.27,148.62 -82.68,148.62 -82.68,78.74 ; -82.68,78.74 -82.68,-94.49 -82.68,-141.73 -82.43,-141.98 ; -82.43,-141.98 -82.43,-141.98

## Block 150mil 3pos [mil]
pads (3):
  rect 100x100 hole 60: 1(0,0) 2(150.59,0) 3(301.18,0)
Top Overlay:
  lines w10: -82.68,0 -82.68,78.74 ; -81.94,-142.47 -81.69,-142.72 171.26,-142.72 383.86,-142.72 383.86,148.62 -82.68,148.62 -82.68,78.74 ; -82.68,78.74 -82.68,-94.49 -82.68,-141.73 -82.43,-141.98 ; -82.43,-141.98 -82.43,-141.98

## Block 150mil 4pos [mil]
pads (4):
  rect 100x100 hole 60: 1(0,0) 2(150.26,0) 3(300.52,0) 4(450.79,0)
Top Overlay:
  lines w10: -82.68,0 -82.68,78.74 ; -82.68,78.74 -82.68,-142.72 171.26,-142.72 533.46,-142.72 533.46,148.62 -82.68,148.62 -82.68,78.74

## Bouton [mm]
pads (4):
  rect 1.498x1.498 hole 0.99: 1(-3.25,2.25)
  round 1.498 hole 0.99: 2(3.25,2.25) 3(-3.25,-2.25) 4(3.25,-2.25)
Top Overlay:
  circle w0.127: c0,0 r1.755
  circle w0.2: c-4.064,1.016 r0.1
  lines w0.127: -2.995,-1.15 -2.995,1.15 ; -2.3,-2.995 2.3,-2.995 ; -2.2,2.995 2.3,2.995 ; 3,-1.15 3,1.15

## COTO_9007 [mm]
pads (4):
  rect 1.2x1.2 hole 0.64: 1(7.467,-0.177)
  round 1.2 hole 0.64: 2(2.387,-0.177) 3(-2.693,-0.177) 4(-7.773,-0.177)
Top Overlay:
  lines w0.2: -9.043,-1.701 -9.043,1.474 8.737,1.474 8.737,-1.701 -9.043,-1.701
  lines w0.254: 8.737,-0.939 ccw(c8.324,-0.113) 8.737,0.712

## LED [mm]
pads (2):
  rect 1x1 smd: 1(0,0) 2(2,0)
Top Overlay:
  lines w0.254: 1,-0.7 0,-0.7 2,-0.7 ; 1,0.7 0,0.7 2,0.7

## LM2776 [mm] "+5 to -5V converter"
pads (6):
  rect 0.7x1.2 smd: 1(0,0) 2(0.95,0) 3(1.9,0) 4(1.9,2.7) 5(0.95,2.7) 6(0,2.7)
Top Overlay:
  circle w0.254: c-0.125,1.125 r0.168
  lines w0.254: -0.65,0.45 -0.65,1.35 -0.65,2.25 2.55,2.25 2.55,0.45 -0.65,0.45

## LQFP64 [mm]
pads (64):
  rect 1.7x0.305 smd paste+0 mask+0: 1(-5.75,3.75) 2(-5.75,3.25) 3(-5.75,2.75) 4(-5.75,2.25) 5(-5.75,1.75) 6(-5.75,1.25) 7(-5.75,0.75) 8(-5.75,0.25) 9(-5.75,-0.25) 10(-5.75,-0.75) 11(-5.75,-1.25) 12(-5.75,-1.75) 13(-5.75,-2.25) 14(-5.75,-2.75) 15(-5.75,-3.25) 16(-5.75,-3.75) 33(5.75,-3.75) 34(5.75,-3.25) 35(5.75,-2.75) 36(5.75,-2.25) 37(5.75,-1.75) 38(5.75,-1.25) 39(5.75,-0.75) 40(5.75,-0.25) 41(5.75,0.25) 42(5.75,0.75) 43(5.75,1.25) 44(5.75,1.75) 45(5.75,2.25) 46(5.75,2.75) 47(5.75,3.25) 48(5.75,3.75)
  rect 0.305x1.7 smd paste+0 mask+0: 17(-3.75,-5.75) 18(-3.25,-5.75) 19(-2.75,-5.75) 20(-2.25,-5.75) 21(-1.75,-5.75) 22(-1.25,-5.75) 23(-0.75,-5.75) 24(-0.25,-5.75) 25(0.25,-5.75) 26(0.75,-5.75) 27(1.25,-5.75) 28(1.75,-5.75) 29(2.25,-5.75) 30(2.75,-5.75) 31(3.25,-5.75) 32(3.75,-5.75) 49(3.75,5.75) 50(3.25,5.75) 51(2.75,5.75) 52(2.25,5.75) 53(1.75,5.75) 54(1.25,5.75) 55(0.75,5.75) 56(0.25,5.75) 57(-0.25,5.75) 58(-0.75,5.75) 59(-1.25,5.75) 60(-1.75,5.75) 61(-2.25,5.75) 62(-2.75,5.75) 63(-3.25,5.75) 64(-3.75,5.75)
Top Overlay:
  lines w0.152: -5.9,4.8 ccw(c-6.24,4.692) -5.89,4.761 ; -5.131,-4.234 -5.131,-5.131 -4.234,-5.131 ; -5.131,4.234 -5.131,5.131 -4.234,5.131 ; 4.234,-5.131 5.131,-5.131 5.131,-4.234 ; 4.234,5.131 5.131,5.131 5.131,4.234
Mechanical 13:
  circle w0: c-4.518,3.75 r0.076
  lines w0.025: -5.004,3.734 -3.734,5.004 ; -5.004,-5.004 -5.004,5.004 5.004,5.004 5.004,-5.004 -5.004,-5.004
3D body "LQFP64-10x10mm.step": height 1.6, standoff 0, extent -5.972,-5.997 6.022,5.997
3D body: height 0.25, standoff 0, extent 0,0 0.254,0.254

## LT1464 [mm] "SOIC-8"
pads (8):
  rect 2x0.8 smd: 1(0,0) 2(0,-1.27) 3(0,-2.54) 4(0,-3.81) 5(5.2,-3.81) 6(5.2,-2.54) 7(5.2,-1.27) 8(5.2,0)
Top Overlay:
  circle w0.254: c1.3,-0.2 r0.224
  lines w0.254: 0.6,-4.4 0.6,0.6 4.6,0.6 4.6,-4.4 0.6,-4.4

## Relay [mil]
pads (4):
  oval 200x40 smd: 1(1.3,-598.58) 2(1.3,-398.58) 3(1.3,-198.58) 4(1.3,1.42)
Top Overlay:
  circle w10: c-138.94,-644.68 r10
  lines w10: -173.7,-678.58 21.3,-678.58 21.3,81.42 -173.7,81.42 -173.7,-678.58

## RNR0011A [mm]
pads (12):
  rect 0.702x0.25 smd paste+0 mask+0.051: 1(-1.251,0.75) 2(-1.251,0.25) 3(-1.251,-0.25) 4(-1.251,-0.75) 7(1.251,-0.75) 8(1.251,-0.25) 9(1.251,0.25) 10(1.251,0.75)
  rect 0.45x1.354 smd paste-0.537 mask-0.051: 5(-0.35,-0.827) 6(0.35,-0.827)
  rect 1.1x1.354 smd paste-0.537 mask-0.533: 11(0,0.827)
  round 0.5 hole 0.203 mask+0.051: 11(0,1)
Top Overlay:
  lines w0.2: -1.375,-1.15 -1.15,-1.15 ; -1.375,1.15 -0.75,1.15 ; 1.15,-1.15 1.375,-1.15 ; 1.15,1.15 1.375,1.15
Top Paste:
  region: 0.25,1.2 0.25,0.92 0.5,0.92 0.5,1.2
  region: -0.5,1.2 -0.5,0.92 -0.25,0.92 -0.25,1.2
  region: -0.5,0.72 -0.5,0.2 0.5,0.2 0.5,0.72
  region: 0.175,-0.28 0.175,-1.2 0.525,-1.2 0.525,-0.28
  region: -0.525,-0.28 -0.525,-1.2 -0.175,-1.2 -0.175,-0.28
Top Solder:
  region: 0.45,0.2 -0.45,0.2 -0.5,0.25 -0.5,1.15 -0.45,1.2 -0.3,1.2 -0.25,1.15 -0.25,0.87 -0.2,0.82 0.2,0.82 0.25,0.87 0.25,1.15 0.3,1.2 0.45,1.2 0.5,1.15 0.5,0.25
Mechanical 13:
  circle w0.08: c-0.775,0.5 r0.152
  lines w0.1: -1.3,-1.05 -1.3,1.05 ; -1.3,-1.05 -1.3,1.05 ; -1.3,-1.05 1.3,-1.05 ; -1.3,-1.05 1.3,-1.05 ; -1.3,1.05 1.3,1.05 ; -1.3,1.05 1.3,1.05 ; 1.3,-1.05 1.3,1.05 ; 1.3,-1.05 1.3,1.05
3D body: height 0.25, standoff 0, extent 0,0 0.254,0.254

## Shield_7seg [mm] "Ecran 7seg"
pads (8):
  rect 1.5x1.5 hole 0.9: 1(0,0) 5(0,57)
  round 1.5 hole 0.9: 2(2.54,0) 3(5.08,0) 4(7.62,0) 6(2.54,57) 7(5.08,57) 8(7.62,57)
Top Overlay:
  lines w0.2: -3,-1.35 -3,58.27 10.625,58.27 10.625,-1.35 -3,-1.35